# Altium schematic symbol library TL1963A-33DCYR.SchLib: 2 symbols
Pins are listed as number, name and electrical type; pins without a type are passive.

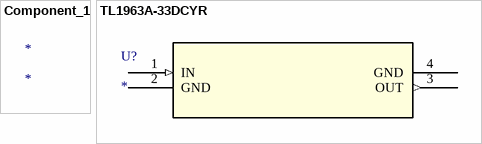
[diagram p0: symbols Component_1 to TL1963A-33DCYR]

## Component_1
designator *

## TL1963A-33DCYR
designator U?
No Description Available; Mfr_Name: Texas Instruments; RefDes: RefDes; Type: Type
footprint DCY4_TEX
pins: 1 IN (in), 2 GND (power), 3 OUT (out), 4 GND (power)